# EAGLE library part BME280 (library Sensors Library)
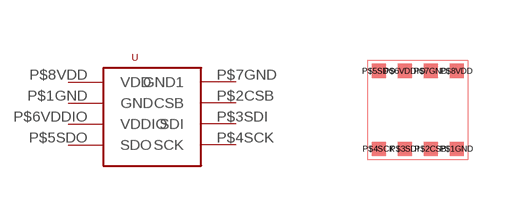
[diagram p0: symbol with the pads of BME280; footprint BME280]

Designator prefix -

## BME280  [BME280]
P$1GND  GND
P$2CSB  CSB
P$3SDI  SDI
P$4SCK  SCK
P$5SDO  SDO
P$6VDDIO  VDDIO
P$7GND  GND1
P$8VDD  VDD

## Footprint BME280 (pad centres in mm)
smd 0.35 x 0.35: P$1GND 0,-1.95; P$2CSB -0.65,-1.95; P$3SDI -1.3,-1.95; P$4SCK -1.95,-1.95; P$5SDO -1.95,0; P$6VDDIO -1.3,0; P$7GND -0.65,0; P$8VDD 0,0